# EAGLE library part SI7615ADN-T1-GE3 (library 2025-03-10_11-27-14_Library)
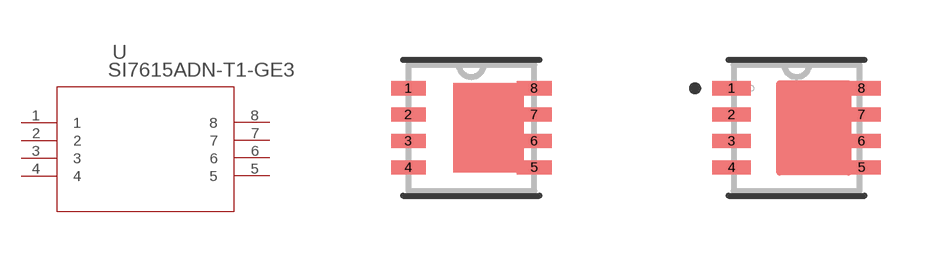
[diagram p0: symbol with the pads of SON8_SI7615ADN-T1-GE3_VIS; footprints SON8_SI7615ADN-T1-GE3_VIS, SON8_SI7615ADN-T1-GE3_VIS-M]

Designator prefix U

## SI7615ADN-T1-GE3SON8_SI7615ADN-T1-GE3_VIS (Copyright: Copyright (C) 2025 Ultra Librarian. All rights reserved.; Manufacturer_Part_Number: SI7615ADN-T1-GE3; Mfr_Name: Vishay)  [SON8_SI7615ADN-T1-GE3_VIS]
1  1  pas
2  2  pas
3  3  pas
4  4  pas
5  5  pas
6  6  pas
7  7  pas
8  8  pas

## SI7615ADN-T1-GE3SON8_SI7615ADN-T1-GE3_VIS-M (Copyright: Copyright (C) 2025 Ultra Librarian. All rights reserved.; Manufacturer_Part_Number: SI7615ADN-T1-GE3; Mfr_Name: Vishay)  [SON8_SI7615ADN-T1-GE3_VIS-M]
Pads as for SON8_SI7615ADN-T1-GE3_VIS

## SI7615ADN-T1-GE3SON8_SI7615ADN-T1-GE3_VIS-L (Copyright: Copyright (C) 2025 Ultra Librarian. All rights reserved.; Manufacturer_Part_Number: SI7615ADN-T1-GE3; Mfr_Name: Vishay)  [SON8_SI7615ADN-T1-GE3_VIS-L]
Pads as for SON8_SI7615ADN-T1-GE3_VIS

## Footprint SON8_SI7615ADN-T1-GE3_VIS (pad centres in mm)
smd 0.864 x 0.356: 1 -1.575,0.991; 2 -1.575,0.33; 3 -1.575,-0.33; 4 -1.575,-0.991; 5 1.575,-0.991; 6 1.575,-0.33; 7 1.575,0.33; 8 1.575,0.991

## Footprint SON8_SI7615ADN-T1-GE3_VIS-M (pad centres in mm)
smd 0.965 x 0.356: 1 -1.626,0.991; 2 -1.626,0.33; 3 -1.626,-0.33; 4 -1.626,-0.991; 5 1.626,-0.991; 6 1.626,-0.33; 7 1.626,0.33; 8 1.626,0.991

## Footprint SON8_SI7615ADN-T1-GE3_VIS-L (pad centres in mm)
smd 0.762 x 0.356: 1 -1.524,0.991; 2 -1.524,0.33; 3 -1.524,-0.33; 4 -1.524,-0.991; 5 1.524,-0.991; 6 1.524,-0.33; 7 1.524,0.33; 8 1.524,0.991